# Altium integrated library APHHS1005LCGCK.IntLib: 1 symbol
Pins are listed as number, name and electrical type; pins without a type are passive.

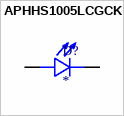
[diagram p0: symbol APHHS1005LCGCK]

## APHHS1005LCGCK
designator D?
Green 570nm LED Indication - Discrete 1.9V 0402 (1005 Metric); MF: Kingbright; MP: APHHS1005LCGCK; SnapEDA_Link: https://www.snapeda.com/parts/APHHS1005LCGCK/Kingbright/view-part/?ref=snap; Package: 0402 Kingbright Corporation; Value: *; Check_prices: https://www.snapeda.com/parts/APHHS1005LCGCK/Kingbright/view-part/?ref=eda
footprint LED_APHHS1005LCGCK
pins: 1 C, 2 A